# Altium schematic symbol library TCS34725FN.SchLib: 1 symbol
Pins are listed as number, name and electrical type; pins without a type are passive.

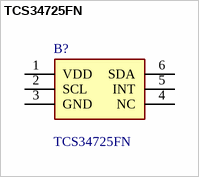
[diagram p0: symbol TCS34725FN]

## TCS34725FN
designator B?
Colour Light to Digital Converter DFN6 ams TCS34725FN Ambient Light Sensor Unit Surface Mount 6-Pin DFN; Manufacturer_Name: ams; Manufacturer_Part_Number: TCS34725FN; Mouser Part Number: 985-TCS34725FN; Mouser Price/Stock: https://www.mouser.co.uk/ProductDetail/ams/TCS34725FN?qs=ECv0MKUHA8HkCOWi8XoeIw%3D%3D; Arrow Part Number: TCS34725FN; Arrow Price/Stock: https://www.arrow.com/en/products/tcs34725fn/ams-ag?region=nac; Datasheet Link: https://datasheet.datasheetarchive.com/originals/distributors/DKDS-7/120564.pdf
footprint FN_1
pins: 1 VDD, 2 SCL, 3 GND, 4 NC, 5 INT, 6 SDA